# Altium schematic symbol library sumo.SchLib: 15 symbols
Pins are listed as number, name and electrical type; pins without a type are passive.

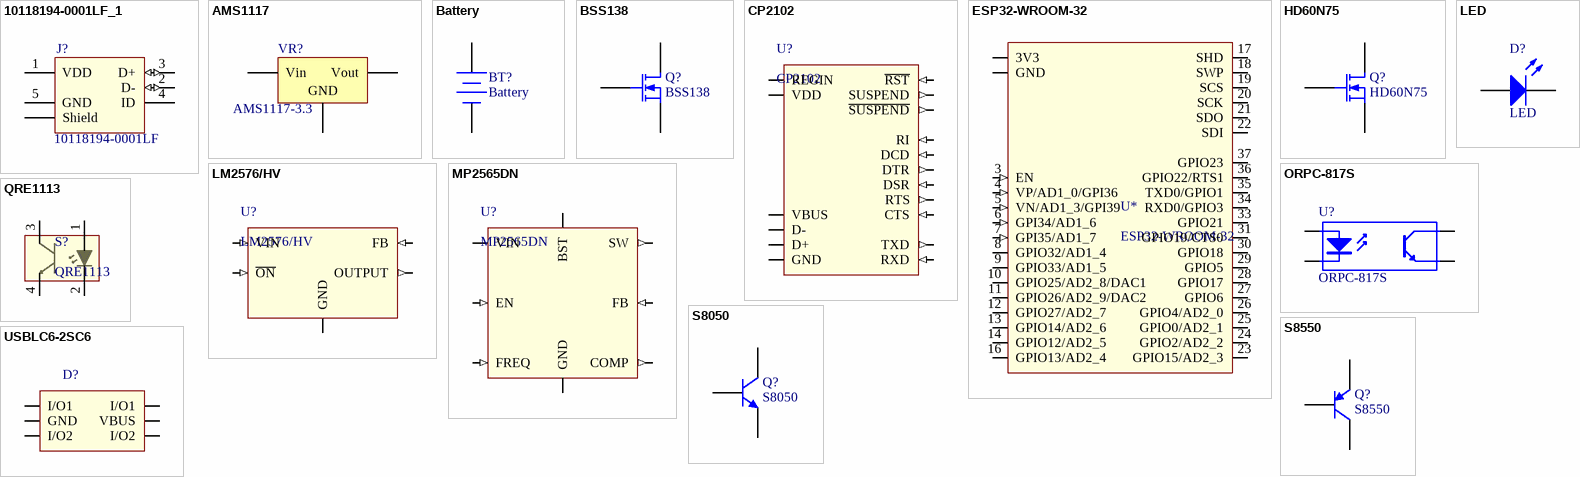
[diagram p0: symbols 10118194-0001LF_1 to USBLC6-2SC6]

## 10118194-0001LF_1
designator J?, comment 10118194-0001LF
Conn Micro USB Type B RCP 5 POS 0.65mm Solder RA SMD 5 Terminal 1 Port T/R; MF: FCI; RS: 714-2347; Availability: Good; Price: 0.23 USD; MP: 10118194-0001LF; Package: DIP-4 FCI; Value: *
footprint 10103594-0001LF (Amphenol FCI Right Angle SMT Type B Version 2.0 Micro USB Connector Socket, 100 V ac, 1.8A)
pins: 1 VDD (power), 2 D- (io), 3 D+ (io), 4 ID, 5 GND (power), 6 Shield (power), 7 Shield (power), 8 Shield (power), 9 Shield (power)

## AMS1117
designator VR?, comment AMS1117-3.3
Voltage Regulator; Published: 24-Mar-1999; LatestRevisionDate: 29-May-2009; LatestRevisionNote: IPC-7351 Footprint Added.; PackageReference: D2PAK; Publisher: Altium Limited; PackageDescription: 3-Pin Transistor Outline Package 2.54 mm Pitch, 15.1 mm Lead Span
footprint SOT223-4M (SOT223, 4-Leads, Body 6.5x3.5mm, Pitch 2.3mm, Lead Span 7mm, IPC Low Density)
pins: 1 GND, 2 Vout, 3 Vin, 4 Vout

## Battery
designator BT?
Multicell Battery; Published: 24-Mar-1999; LatestRevisionDate: 17-Jul-2002; LatestRevisionNote: Re-released for DXP Platform.; PackageReference: BAT-2; Publisher: Altium Limited; PackageDescription: Battery; 2 Leads
footprint Battery
footprint Wire Terminals
pins: 1 +, 2 -

## BSS138
designator Q?
N-Channel MOSFET; Published: 8-Jun-2000; LatestRevisionDate: 17-Jul-2002; LatestRevisionNote: Re-released for DXP Platform.; PackageVersion: 1995/1996; PackageReference: E3; Publisher: Altium Limited; PackageDescription: TO, Flat Index; 3 In-Line, Axial Leads; Body Dia. 4.6mm; Lead Dia. 0.5 mm (max)
simulation model NMOS (MOSFET-N)
footprint SOT23-3M (SOT23, 3-Leads, Body 2.9x1.3mm, Pitch 0.95mm, Lead Span 2.5mm, IPC Low Density)
pins: 1 G, 2 S, 3 D

## CP2102
designator U?
footprint QFN-28
pins: 1 DCD (in), 2 RI (in), 3 GND (power), 4 D+ (io), 5 D- (io), 6 VDD (power), 7 REGIN (power), 8 VBUS (power), 9 ~{RST} (in), 11 ~{SUSPEND} (out), 12 SUSPEND (out), 23 CTS (in), 24 RTS (out), 25 RXD (in), 26 TXD (out), 27 DSR (in), 28 DTR (out), 29 (power)

## ESP32-WROOM-32
designator U*
footprint ESP32-WROOM-32
pins: 1 GND (power), 2 3V3 (power), 3 EN (in), 4 VP/AD1_0/GPI36 (in), 5 VN/AD1_3/GPI39 (in), 6 GPI34/AD1_6 (in), 7 GPI35/AD1_7 (in), 8 GPIO32/AD1_4 (io), 9 GPIO33/AD1_5 (io), 10 GPIO25/AD2_8/DAC1 (io), 11 GPIO26/AD2_9/DAC2 (io), 12 GPIO27/AD2_7 (io), 13 GPIO14/AD2_6 (io), 14 GPIO12/AD2_5 (io), 15 GND (power), 16 GPIO13/AD2_4 (io), 17 SHD (io), 18 SWP (io), 19 SCS (io), 20 SCK (io), 21 SDO (io), 22 SDI (io), 23 GPIO15/AD2_3 (io), 24 GPIO2/AD2_2 (io), 25 GPIO0/AD2_1 (io), 26 GPIO4/AD2_0 (io), 27 GPIO6 (io), 28 GPIO17 (io), 29 GPIO5 (io), 30 GPIO18 (io), 31 GPIO19/CTS0 (io), 33 GPIO21 (io), 34 RXD0/GPIO3 (io), 35 TXD0/GPIO1 (io), 36 GPIO22/RTS1 (io), 37 GPIO23 (io), 38 GND (power), 39 GND (power)

## HD60N75
designator Q?
N-Channel MOSFET 75V/60A; Published: 8-Jun-2000; LatestRevisionDate: 17-Jul-2002; LatestRevisionNote: Re-released for DXP Platform.; PackageVersion: 1995/1996; PackageReference: E3; Publisher: Altium Limited; PackageDescription: TO, Flat Index; 3 In-Line, Axial Leads; Body Dia. 4.6mm; Lead Dia. 0.5 mm (max)
simulation model NMOS (MOSFET-N)
footprint TO-252 (D-PAK)
pins: 1 G, 2 D, 3 S

## LED
designator D?
Published: 8-Jun-2000; LatestRevisionDate: 17-Jul-2002; LatestRevisionNote: Re-released for DXP Platform.; PackageVersion: Feb-2002; PackageReference: 3.2X1.6X1.1; Publisher: Altium Limited; PackageDescription: SM LED; 2 Flat Leads
simulation model LED2 (Diode)
footprint J1-0603 LED (Chip Resistor, Body 1.6x0.8mm, IPC High Density)
pins: 1 A, 2 K

## LM2576/HV
designator U?
footprint KTT0005B
pins: 1 VIN (in), 2 OUTPUT (out), 3 GND (power), 4 FB (in), 5 ~{ON} (in), 6 TAB (power)

## MP2565DN
designator U?
footprint SOIC8E
pins: 1 SW (out), 2 EN (in), 3 COMP (out), 4 FB (in), 5 GND (power), 6 FREQ (in), 7 VIN (power), 8 BST (power), 9 PAD (power)

## ORPC-817S
designator U?
4-Pin Phototransistor Optocoupler; Published: 24-Mar-1999; LatestRevisionDate: 04-Mar-2005; LatestRevisionNote: Sch pins 3 & 4 Swapped.; DatasheetVersion: Nov-2003; PackageReference: DIP-4; Publisher: Altium Limited
footprint SMD-4
pins: 1 A "Anode", 2 K "Cathode", 3 E "Emitter", 4 C "Collector"

## QRE1113
designator S?
footprint QRE1113GR (SOP, 4-Leads, Body 3.40x2.70mm, Pitch 1.80mm, IPC Medium Density)
pins: 1 +, 2 5, 3 +, 4

## S8050
designator Q?
NPN General Purpose Amplifier; Published: 8-Jun-2000; LatestRevisionDate: 15-Jan-2003; LatestRevisionNote: PCB Footprint 'BCY-W3/D4.7' replaced; DatasheetVersion: 1997; PackageVersion: Sep-1998; PackageReference: TO-92A; Publisher: Altium Limited; PackageDescription: TO, Flat Index; 3 In-Line, Axial Leads; Body Dia. 4.5mm; Leads 0.51 x 0.48 mm (max)
footprint SOT23-3M (SOT23, 3-Leads, Body 2.9x1.3mm, Pitch 0.95mm, Lead Span 2.5mm, IPC Low Density)
pins: 1 B, 2 E, 3 C

## S8550
designator Q?
PNP General Purpose Amplifier; Published: 8-Jun-2000; LatestRevisionDate: 15-Jan-2003; LatestRevisionNote: PCB Footprint 'BCY-W3/D4.7' replaced; DatasheetVersion: 1997; PackageVersion: Sep-1998; PackageReference: TO-92A; Publisher: Altium Limited; PackageDescription: TO, Flat Index; 3 In-Line, Axial Leads; Body Dia. 4.5mm; Leads 0.51 x 0.48 mm (max)
footprint SOT23-3M (SOT23, 3-Leads, Body 2.9x1.3mm, Pitch 0.95mm, Lead Span 2.5mm, IPC Low Density)
pins: 1 B, 2 E, 3 C

## USBLC6-2SC6
designator D?  (value not drawn)
STMicroelectronics USBLC6-2SC6, Dual Uni-Directional TVS Diode Array, 6-Pin SOT-23
footprint SOT100P275-6M
pins: 1 I/O1 (io), 2 GND (power), 3 I/O2 (io), 4 I/O2 (io), 5 VBUS (power), 6 I/O1 (io)